# EAGLE library part XFMR_T50_PHASE_MAG (library NewSDR)
T50 Dual Phase Magnitude Bridge Transformer
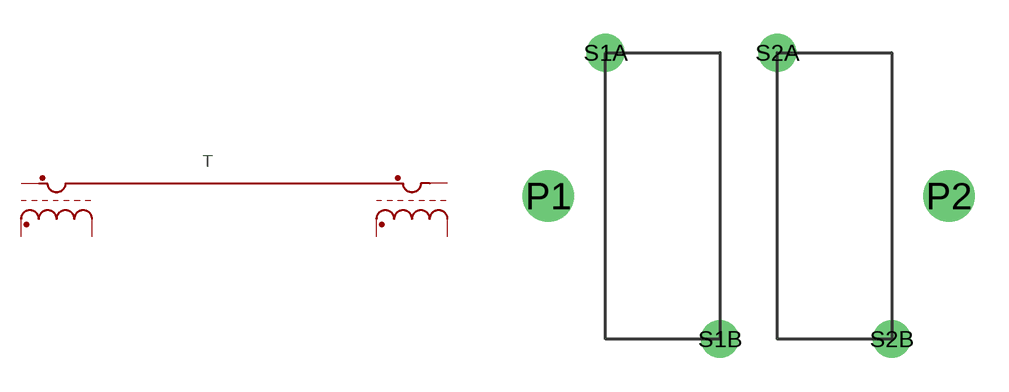
[diagram p82: symbol with the pads of XFMR_T50_PHASE_MAG; footprint XFMR_T50_PHASE_MAG]

Designator prefix T

## XFMR_T50_PHASE_MAG  [XFMR_T50_PHASE_MAG]
P1  P1  pas
P2  P2  pas
S1A  S1A  pas
S1B  S1B  pas
S2A  S2A  pas
S2B  S2B  pas

## Footprint XFMR_T50_PHASE_MAG (pad centres in mm)
T50 Phase Magnitude Bridge Transformer
drill 1.524: P1 -8.89,0; P2 8.89,0
drill 0.813 pad 1.676: S1A -6.35,6.35; S1B -1.27,-6.35; S2A 1.27,6.35; S2B 6.35,-6.35